# Altium integrated library 3296W-1-101LF.IntLib: 1 symbol
Pins are listed as number, name and electrical type; pins without a type are passive.

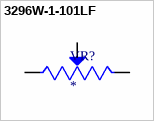
[diagram p0: symbol 3296W-1-101LF]

## 3296W-1-101LF
designator VR?
100 Ohms 0.5W, 1/2W PC Pins Through Hole Trimmer Potentiometer Cermet 25.0 Turn Top Adjustment; MP: 3296W-1-101LF; MF: Bourns; Purchase-URL: https://pricing.snapeda.com/search/part/3296W-1-101LF/?ref=eda; Package: SOT-23-5 Bourns; SnapEDA_Link: https://www.snapeda.com/parts/3296W-1-101LF/Bourns/view-part/?ref=snap; Value: *; Availability: In Stock; Price: None; Check_prices: https://www.snapeda.com/parts/3296W-1-101LF/Bourns/view-part/?ref=eda
footprint TRIM_3296W-1-101LF
pins: 1 CCW, 2 WIPER, 3 CW